# EAGLE library part HIF3FC-14PA-2.54DS(71) (library HIF3FC)
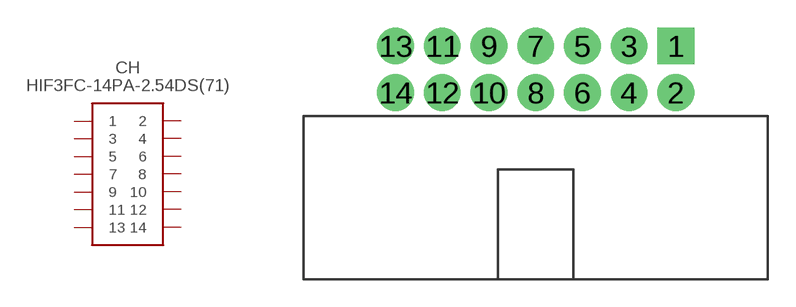
[diagram p0: symbol with the pads of HIF3FC-14PA-2.54DS(71); footprint HIF3FC-14PA-2.54DS(71)]

Designator prefix CH

## HIF3FC-14PA-2.54DS(71)  [HIF3FC-14PA-2.54DS(71)]
1  1
2  2
3  3
4  4
5  5
6  6
7  7
8  8
9  9
10  10
11  11
12  12
13  13
14  14

## Footprint HIF3FC-14PA-2.54DS(71) (pad centres in mm)
drill 1 pad 2 square: 1 7.62,12.72
drill 1 pad 2: 2 7.62,10.18; 3 5.08,12.72; 4 5.08,10.18; 5 2.54,12.72; 6 2.54,10.18; 7 0,12.72; 8 0,10.18; 9 -2.54,12.72; 10 -2.54,10.18; 11 -5.08,12.72; 12 -5.08,10.18; 13 -7.62,12.72; 14 -7.62,10.18